# Altium footprint library SI5345B-B-GM.PcbLib: 1 footprints
Each footprint in its own frame and in the unit in brackets; x right, y up, seen from the top. Pads: shape width x height; smd on the part's side, far side on the other; paste and mask are expansions set on the pad; w line width, h text height; cw(c..) or ccw(c..) is an arc to the next point about the centre after c.
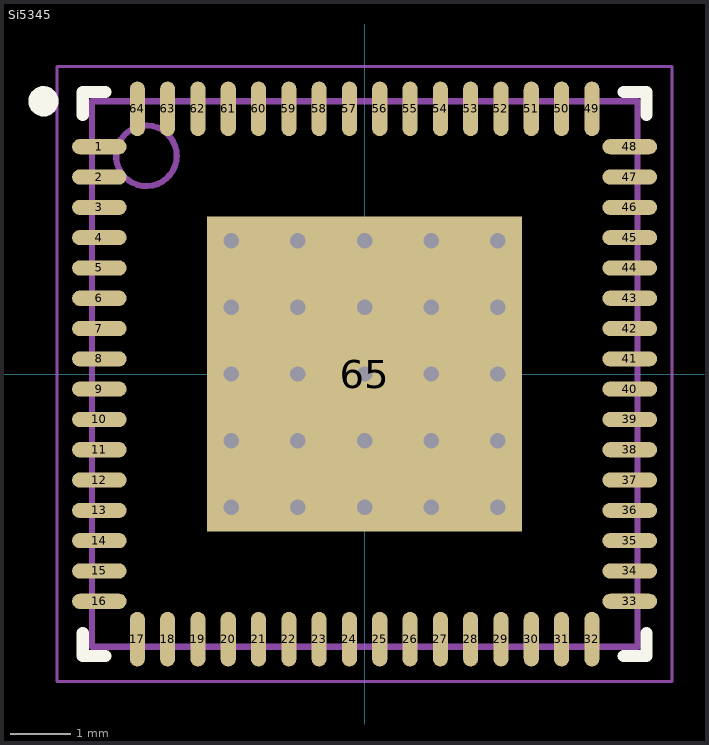
[diagram p0: the footprint, top view; thin cyan lines are the x and y axes]

## Si5345 [mm]
height 0.85
pads (65):
  oval 0.9x0.25 smd: 1(-4.375,3.75) 2(-4.375,3.25) 3(-4.375,2.75) 4(-4.375,2.25) 5(-4.375,1.75) 6(-4.375,1.25) 7(-4.375,0.75) 8(-4.375,0.25) 9(-4.375,-0.25) 10(-4.375,-0.75) 11(-4.375,-1.25) 12(-4.375,-1.75) 13(-4.375,-2.25) 14(-4.375,-2.75) 15(-4.375,-3.25) 16(-4.375,-3.75) 33(4.375,-3.75) 34(4.375,-3.25) 35(4.375,-2.75) 36(4.375,-2.25) 37(4.375,-1.75) 38(4.375,-1.25) 39(4.375,-0.75) 40(4.375,-0.25) 41(4.375,0.25) 42(4.375,0.75) 43(4.375,1.25) 44(4.375,1.75) 45(4.375,2.25) 46(4.375,2.75) 47(4.375,3.25) 48(4.375,3.75)
  oval 0.25x0.9 smd: 17(-3.75,-4.375) 18(-3.25,-4.375) 19(-2.75,-4.375) 20(-2.25,-4.375) 21(-1.75,-4.375) 22(-1.25,-4.375) 23(-0.75,-4.375) 24(-0.25,-4.375) 25(0.25,-4.375) 26(0.75,-4.375) 27(1.25,-4.375) 28(1.75,-4.375) 29(2.25,-4.375) 30(2.75,-4.375) 31(3.25,-4.375) 32(3.75,-4.375) 49(3.75,4.375) 50(3.25,4.375) 51(2.75,4.375) 52(2.25,4.375) 53(1.75,4.375) 54(1.25,4.375) 55(0.75,4.375) 56(0.25,4.375) 57(-0.25,4.375) 58(-0.75,4.375) 59(-1.25,4.375) 60(-1.75,4.375) 61(-2.25,4.375) 62(-2.75,4.375) 63(-3.25,4.375) 64(-3.75,4.375)
  rect 5.2x5.2 smd paste-10: 65(0,0)
via 2.2,-2.2 diameter 0.55 hole 0.254
via 1.1,-2.2 diameter 0.55 hole 0.254
via 0,-2.2 diameter 0.55 hole 0.254
via -1.1,-2.2 diameter 0.55 hole 0.254
via -2.2,-2.2 diameter 0.55 hole 0.254
via 2.2,-1.1 diameter 0.55 hole 0.254
via 1.1,-1.1 diameter 0.55 hole 0.254
via 0,-1.1 diameter 0.55 hole 0.254
via -1.1,-1.1 diameter 0.55 hole 0.254
via -2.2,-1.1 diameter 0.55 hole 0.254
via 2.2,0 diameter 0.55 hole 0.254
via 1.1,0 diameter 0.55 hole 0.254
via 0,0 diameter 0.55 hole 0.254
via -1.1,0 diameter 0.55 hole 0.254
via -2.2,0 diameter 0.55 hole 0.254
via 2.2,1.1 diameter 0.55 hole 0.254
via 1.1,1.1 diameter 0.55 hole 0.254
via 0,1.1 diameter 0.55 hole 0.254
via -1.1,1.1 diameter 0.55 hole 0.254
via -2.2,1.1 diameter 0.55 hole 0.254
via 2.2,2.2 diameter 0.55 hole 0.254
via 1.1,2.2 diameter 0.55 hole 0.254
via 0,2.2 diameter 0.55 hole 0.254
via -1.1,2.2 diameter 0.55 hole 0.254
via -2.2,2.2 diameter 0.55 hole 0.254
Top Overlay:
  circle w0.25: c-5.3,4.5 r0.125
  lines w0.2: -4.65,-4.275 -4.65,-4.65 -4.275,-4.65 ; -4.65,4.275 -4.65,4.65 -4.275,4.65 ; 4.275,-4.65 4.65,-4.65 4.65,-4.275 ; 4.275,4.65 4.65,4.65 4.65,4.275
Top Paste:
  region: 2.297,0.673 0.967,0.673 0.967,-0.657 2.297,-0.657
  region: 2.297,-0.962 0.967,-0.962 0.967,-2.292 2.297,-2.292
  region: 0.664,0.673 -0.666,0.673 -0.666,-0.657 0.664,-0.657
  region: 0.664,-0.962 -0.666,-0.962 -0.666,-2.292 0.664,-2.292
  region: -0.97,-0.962 -2.3,-0.962 -2.3,-2.292 -0.97,-2.292
  region: -0.97,0.673 -2.3,0.673 -2.3,-0.657 -0.97,-0.657
  region: 2.297,2.304 0.967,2.304 0.967,0.974 2.297,0.974
  region: 0.664,2.304 -0.666,2.304 -0.666,0.974 0.664,0.974
  region: -0.97,2.304 -2.3,2.304 -2.3,0.974 -0.97,0.974
Mechanical 13:
  circle w0.1: c-3.6,3.6 r0.5
  lines w0.1: -4.5,-4.5 4.5,-4.5 4.5,4.5 -4.5,4.5 -4.5,-4.5
Mechanical 15:
  lines w0.05: -5.075,-5.075 5.075,-5.075 5.075,5.075 -5.075,5.075 -5.075,-5.075
  lines w0.1: -0.5,0 0.5,0 ; 0,-0.5 0,0.5
3D body "QFN127P600-8N.step": height 0.9, standoff 0, extent -4.58,-4.58 4.58,4.58